# EAGLE library part STM32F030 (library comma.ai)
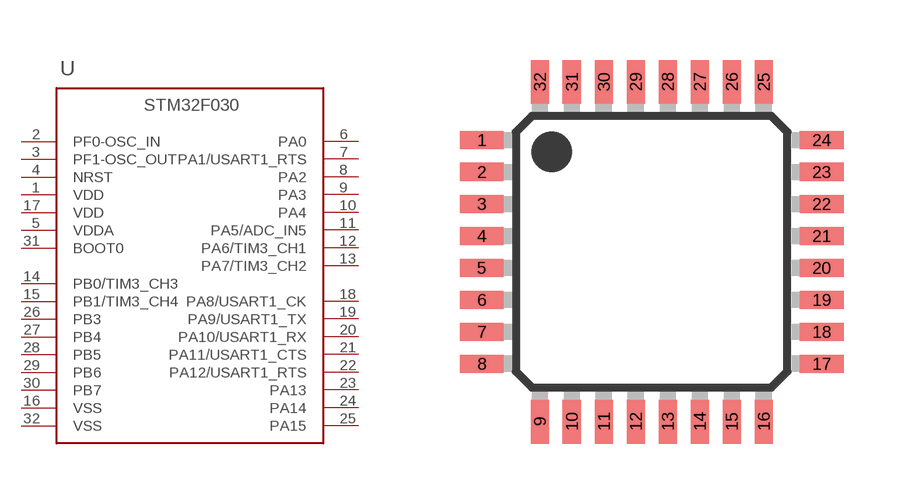
[diagram p33: symbol with the pads of LQFP32-7X7MM; footprint LQFP32-7X7MM]

Designator prefix -

## STM32F030  [LQFP32-7X7MM]
1  VDD
2  PF0-OSC_IN
3  PF1-OSC_OUT
4  NRST
5  VDDA
6  PA0
7  PA1/USART1_RTS
8  PA2
9  PA3
10  PA4
11  PA5/ADC_IN5
12  PA6/TIM3_CH1
13  PA7/TIM3_CH2
14  PB0/TIM3_CH3
15  PB1/TIM3_CH4
16  VSS
17  VDD
18  PA8/USART1_CK
19  PA9/USART1_TX
20  PA10/USART1_RX
21  PA11/USART1_CTS
22  PA12/USART1_RTS
23  PA13
24  PA14
25  PA15
26  PB3
27  PB4
28  PB5
29  PB6
30  PB7
31  BOOT0
32  VSS

## Footprint LQFP32-7X7MM (pad centres in mm)
LQFP32 plastic low profile quad flat package, 32 leads, body 7 x 7 x 1.4 mm Source: TDA8029.pdf
smd 1.1 x 0.45: 1 -4.25,2.8; 2 -4.25,2; 3 -4.25,1.2; 4 -4.25,0.4; 5 -4.25,-0.4; 6 -4.25,-1.2; 7 -4.25,-2; 8 -4.25,-2.8; 17 4.25,-2.8; 18 4.25,-2; 19 4.25,-1.2; 20 4.25,-0.4; 21 4.25,0.4; 22 4.25,1.2; 23 4.25,2; 24 4.25,2.8
smd 0.45 x 1.1: 9 -2.8,-4.25; 10 -2,-4.25; 11 -1.2,-4.25; 12 -0.4,-4.25; 13 0.4,-4.25; 14 1.2,-4.25; 15 2,-4.25; 16 2.8,-4.25; 25 2.8,4.25; 26 2,4.25; 27 1.2,4.25; 28 0.4,4.25; 29 -0.4,4.25; 30 -1.2,4.25; 31 -2,4.25; 32 -2.8,4.25